# Altium schematic symbol library RES1206_TEMPLATE.SchLib: 1 symbol
Pins are listed as number, name and electrical type; pins without a type are passive.

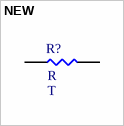
[diagram p0: symbol NEW]

## NEW
designator R?  Resistance: R  Tolerance: T  (hidden comment: NEW)
[DESC]; Footprint: RES1206; Package: 1206; ComponentLink1Description: Datasheet
footprint RES1206 (Generic 1206 PCB Footprint)
pins: 1, 2